# Altium schematic symbol library 33uF tantalum 7343 cap.SchLib: 1 symbol
Pins are listed as number, name and electrical type; pins without a type are passive.

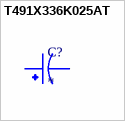
[diagram p0: symbol T491X336K025AT]

## T491X336K025AT
designator C?
Capacitors Tantalum PCB 33uF SMD Tol 10% 25 VDC Case Size 7343 T491 Series | KEMET T491X336K025AT; SnapEDA_Link: https://www.snapeda.com/parts/T491X336K025AT/KEMET/view-part/?ref=snap; Package: SMD-2 KEMET; Value: *; MF: KEMET; MP: T491X336K025AT; Check_prices: https://www.snapeda.com/parts/T491X336K025AT/KEMET/view-part/?ref=eda
footprint CAPMP7343X430N
pins: 1, 2